# EAGLE library part PICAXE-28X2 (library bt_pic)
PICAXE 28 pin BASIC microcontroller chip PICAXE is a neat entry-level microcontroller system that is relatively cheap to get started with. The chip is programmed with a simple serial connection and the BASIC development environment is free! PICAXE has some excellent educational applications and support, and is a great entryway into more complicated embedded systems. If you’re look for a place to start with microcontrollers, PICAXE is a great way to go! datasheet.pdf <http://www.rev-ed.co.uk/docs/picaxe_manual1.pdf>
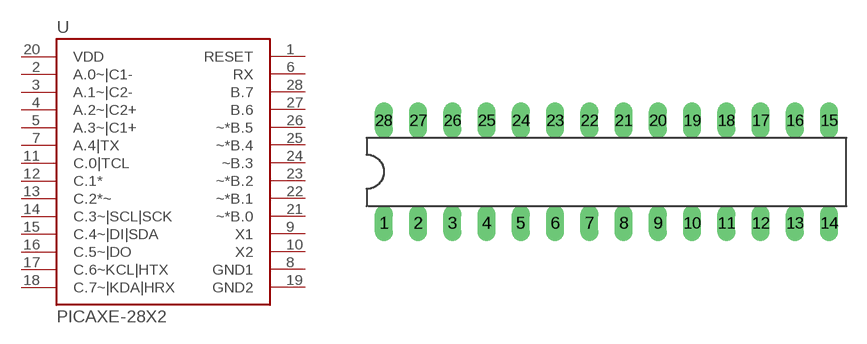
[diagram p8: symbol with the pads of DIL28-3; footprint DIL28-3]

Designator prefix U

## PICAXE-28X2  [DIL28-3]
1  RESET
2  A.0~|C1-
3  A.1~|C2-
4  A.2~|C2+
5  A.3~|C1+
6  RX  in
7  A.4|TX  out
8  GND1  pwr
9  X1
10  X2
11  C.0|TCL
12  C.1*
13  C.2*~
14  C.3~|SCL|SCK
15  C.4~|DI|SDA
16  C.5~|DO
17  C.6~KCL|HTX
18  C.7~|KDA|HRX
19  GND2  pwr
20  VDD  pwr
21  ~*B.0
22  ~*B.1
23  ~*B.2
24  ~B.3
25  ~*B.4
26  ~*B.5
27  B.6
28  B.7

## Footprint DIL28-3 (pad centres in mm)
Dual In Line package type P
drill 0.813 long: 1 -16.51,-3.81; 2 -13.97,-3.81; 3 -11.43,-3.81; 4 -8.89,-3.81; 5 -6.35,-3.81; 6 -3.81,-3.81; 7 -1.27,-3.81; 8 1.27,-3.81; 9 3.81,-3.81; 10 6.35,-3.81; 11 8.89,-3.81; 12 11.43,-3.81; 13 13.97,-3.81; 14 16.51,-3.81; 15 16.51,3.81; 16 13.97,3.81; 17 11.43,3.81; 18 8.89,3.81; 19 6.35,3.81; 20 3.81,3.81; 21 1.27,3.81; 22 -1.27,3.81; 23 -3.81,3.81; 24 -6.35,3.81; 25 -8.89,3.81; 26 -11.43,3.81; 27 -13.97,3.81; 28 -16.51,3.81